# EAGLE library part 691412420006 (library WR-TBL Spring Clamp)
WR-TBL Serie 4124 - 7.62 mm Screwless 45° Entry KIND PROPERTIES Pitch 7.62 mm MATERIAL PROPERTIES Insulator Material PA6/66 Insulator Flammability Rating UL94 V-0 Insulator Color Grey Contact Material Copper Alloy Contact Plating Tin Wire Guard Material Copper Alloy with Tin GENERAL INFORMATION Operating Temperature -30 up to +120 °C Compliance Lead free / RoHS ELECTRICAL PROPERTIES IR UL 4 A IR VDE 4 A Working Voltage [UL] 300 V (AC) Working Voltage [VDE] 750 V (AC) Withstanding Voltage [UL] 1600 V (AC) Withstanding Voltage [VDE] 2500 V (AC) Contact Resistance 20 mΩ Mechanical Properties Wire Strip Length 7 (mm) Wire Properties Solid Wire Section (AWG) 16 to 30 (AWG) Solid Wire Section (Metric) 1.31 to 0.05 (mm²) Stranded Wire Section (AWG) 16 to 30 (AWG) Stranded Wire Section (Metric) 1.31 to 0.05 (mm²) CERTIFICATION UL Approval E150931 Cat No. MRT24 (3) VDE Approval 40013441 Type MRT24 Packaging Properties Packaging Box Details see: www.we-online.com/en/components/products/TBL_7_62_4124_SCREWLESS_45-DEGREE_ENTRY_6914124200xx/ Updated by Ella Wu 2019-12-31 2019(C) Würth Elektronik
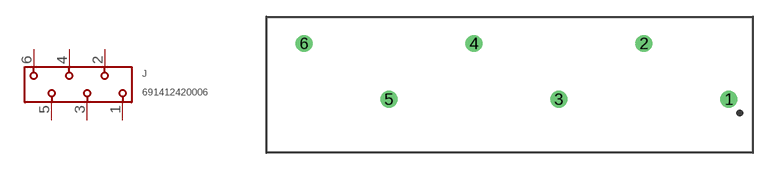
[diagram p97: symbol with the pads of 691412420006; footprint 691412420006]

Designator prefix J

## 691412420006 (APPLICATION: Screwless; DATASHEET: https://www.we-online.com/redexpert/spec/691412420006?ae; IR-UL: 4A; MODULARITY: No; MOUNT: THT; PART-NUMBER: 691412420006; PINS: 6; PITCH: 7.62mm; TYPE: 45°; VALUE: 691412420006; WIRE: 16 to 30 (AWG) 1.31 to 0.05 (mm²); WORKING-VOLTAGE-UL: 300V (AC))  [691412420006]
1  1  pas
2  2  pas
3  3  pas
4  4  pas
5  5  pas
6  6  pas

## Footprint 691412420006 (pad centres in mm)
WR-TBL Serie 4124 - 7.62 mm Screwless 45° Entry Max Height = 13.2mm , Pitch 7.62mm , 6pins
drill 1: 1 19.05,-2.5; 2 11.43,2.5; 3 3.81,-2.5; 4 -3.81,2.5; 5 -11.43,-2.5; 6 -19.05,2.5